# EAGLE library part SGP30 (library graftel-internal-ic)
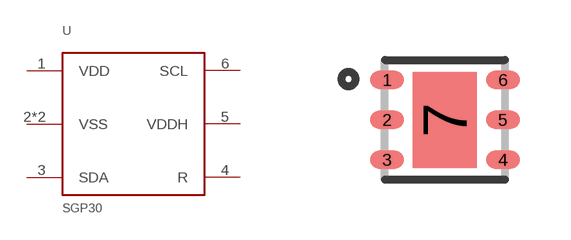
[diagram p52: symbol with the pads of SON100P300X300X110-7N; footprint SON100P300X300X110-7N]

Designator prefix U

## SGP30  [SON100P300X300X110-7N]
1  VDD
2  VSS
3  SDA
4  R
5  VDDH
6  SCL
7  VSS

## Footprint SON100P300X300X110-7N (pad centres in mm)
smd 0.85 x 0.45: 1 -1.45,1; 2 -1.45,0; 3 -1.45,-1; 4 1.45,-1; 5 1.45,0; 6 1.45,1
smd 1.6 x 2.4: 7 0,0